# EAGLE library part XR-1016P (library exar)
Seventh order switched capacitor FILTER
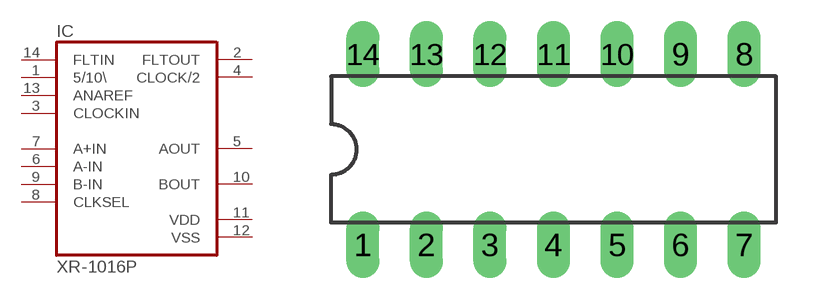
[diagram p97: symbol with the pads of DIL14; footprint DIL14]

Designator prefix IC

## XR-1016P  [DIL14]
1  5/10\  in
2  FLTOUT  out
3  CLOCKIN  in
4  CLOCK/2  out
5  AOUT  out
6  A-IN  in
7  A+IN  in
8  CLKSEL  in
9  B-IN  in
10  BOUT  out
11  VDD  pwr
12  VSS  pwr
13  ANAREF  in
14  FLTIN  in

## Footprint DIL14 (pad centres in mm)
Dual In Line Package
drill 0.813 long: 1 -7.62,-3.81; 2 -5.08,-3.81; 3 -2.54,-3.81; 4 0,-3.81; 5 2.54,-3.81; 6 5.08,-3.81; 7 7.62,-3.81; 8 7.62,3.81; 9 5.08,3.81; 10 2.54,3.81; 11 0,3.81; 12 -2.54,3.81; 13 -5.08,3.81; 14 -7.62,3.81